# EAGLE library part CONN-FPC-6POS (library 1_ZeroUI)
Amphenol FCI 6-pos connector. 6 Position FFC, FPC Connector Contacts, Top 0.039" (1.00mm) Surface Mount, Right Angle Find link below: http://www.digikey.com/product-detail/en/amphenol-fci/SFW6R-4STE1LF/609-1892-1-ND/1003246
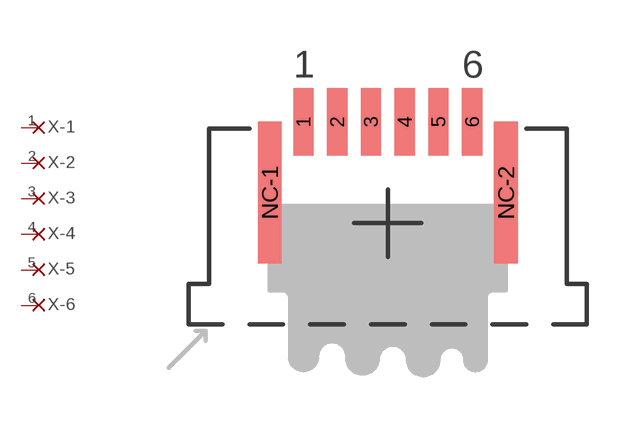
[diagram p17: symbol with the pads of CONN-6POS-FPC; footprint CONN-6POS-FPC]

Designator prefix X; gates -1=CONN_1_POS -2=CONN_1_POS -3=CONN_1_POS -4=CONN_1_POS -5=CONN_1_POS -6=CONN_1_POS

## CONN-FPC-6POS  [CONN-6POS-FPC]
1  -1:>NAME
2  -2:>NAME
3  -3:>NAME
4  -4:>NAME
5  -5:>NAME
6  -6:>NAME

## Footprint CONN-6POS-FPC (pad centres in mm)
smd 0.6 x 2: 1 -2.5,3; 2 -1.5,3; 3 -0.5,3; 4 0.5,3; 5 1.5,3; 6 2.5,3
smd 0.7 x 4.2: NC-1 -3.5,0.9; NC-2 3.5,0.9